# Altium schematic symbol library Cap_Murata_GCM1555C1H161FA16D_160pF.SchLib: 1 symbol
Pins are listed as number, name and electrical type; pins without a type are passive.

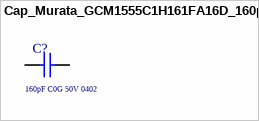
[diagram p0: symbol Cap_Murata_GCM1555C1H161FA16D_160pF]

## Cap_Murata_GCM1555C1H161FA16D_160pF
designator C?, comment Capacitance: 160pF C0G 50V 0402  (hidden comment: GCM1555C1H161FA16D)
CAP CER 160pF 50V C0G 0402; Supplier 1: Mouser; Supplier Part Number 1: 81-GCM1555C1H161FA6D
footprint Cap_Murata_GCM1555C1H161FA16D_160pF
pins: 1, 2